# EAGLE library part MPU-9250 (library InvenSense)
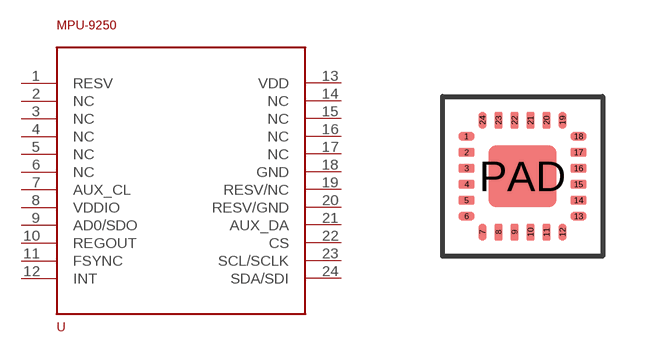
[diagram p0: symbol with the pads of QFN-24; footprint QFN-24]

Designator prefix U

## MPU-9250  [QFN-24]
1  RESV  pwr
2  NC  nc
3  NC  nc
4  NC  nc
5  NC  nc
6  NC  nc
7  AUX_CL
8  VDDIO  pwr
9  AD0/SDO
10  REGOUT  pwr
11  FSYNC
12  INT
13  VDD  pwr
14  NC  nc
15  NC  nc
16  NC  nc
17  NC  nc
18  GND  pwr
19  RESV/NC  nc
20  RESV/GND  pwr
21  AUX_DA
22  CS
23  SCL/SCLK
24  SDA/SDI

## Footprint QFN-24 (pad centres in mm)
3x3x1mm QFN-24 No lead package
smd 0.4 x 0.2: 1 -1.4,1; 2 -1.4,0.6; 3 -1.4,0.2; 4 -1.4,-0.2; 5 -1.4,-0.6; 6 -1.4,-1; 13 1.4,-1; 14 1.4,-0.6; 15 1.4,-0.2; 16 1.4,0.2; 17 1.4,0.6; 18 1.4,1
smd 0.2 x 0.4: 7 -1,-1.4; 8 -0.6,-1.4; 9 -0.2,-1.4; 10 0.2,-1.4; 11 0.6,-1.4; 12 1,-1.4; 19 1,1.4; 20 0.6,1.4; 21 0.2,1.4; 22 -0.2,1.4; 23 -0.6,1.4; 24 -1,1.4
smd 1.7 x 1.54: PAD 0,0